# Altium schematic symbol library M_CON2x5_HSNG.Schlib: 1 symbol
Pins are listed as number, name and electrical type; pins without a type are passive.

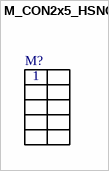
[diagram p0: symbol M_CON2x5_HSNG]

## M_CON2x5_HSNG
designator M?  (mechanical)
text: 1